# Altium footprint library STM32F103Core.PcbLib: 15 footprints
Each footprint in its own frame and in the unit in brackets; x right, y up, seen from the top. Pads: shape width x height; smd on the part's side, far side on the other; paste and mask are expansions set on the pad; w line width, h text height; cw(c..) or ccw(c..) is an arc to the next point about the centre after c.
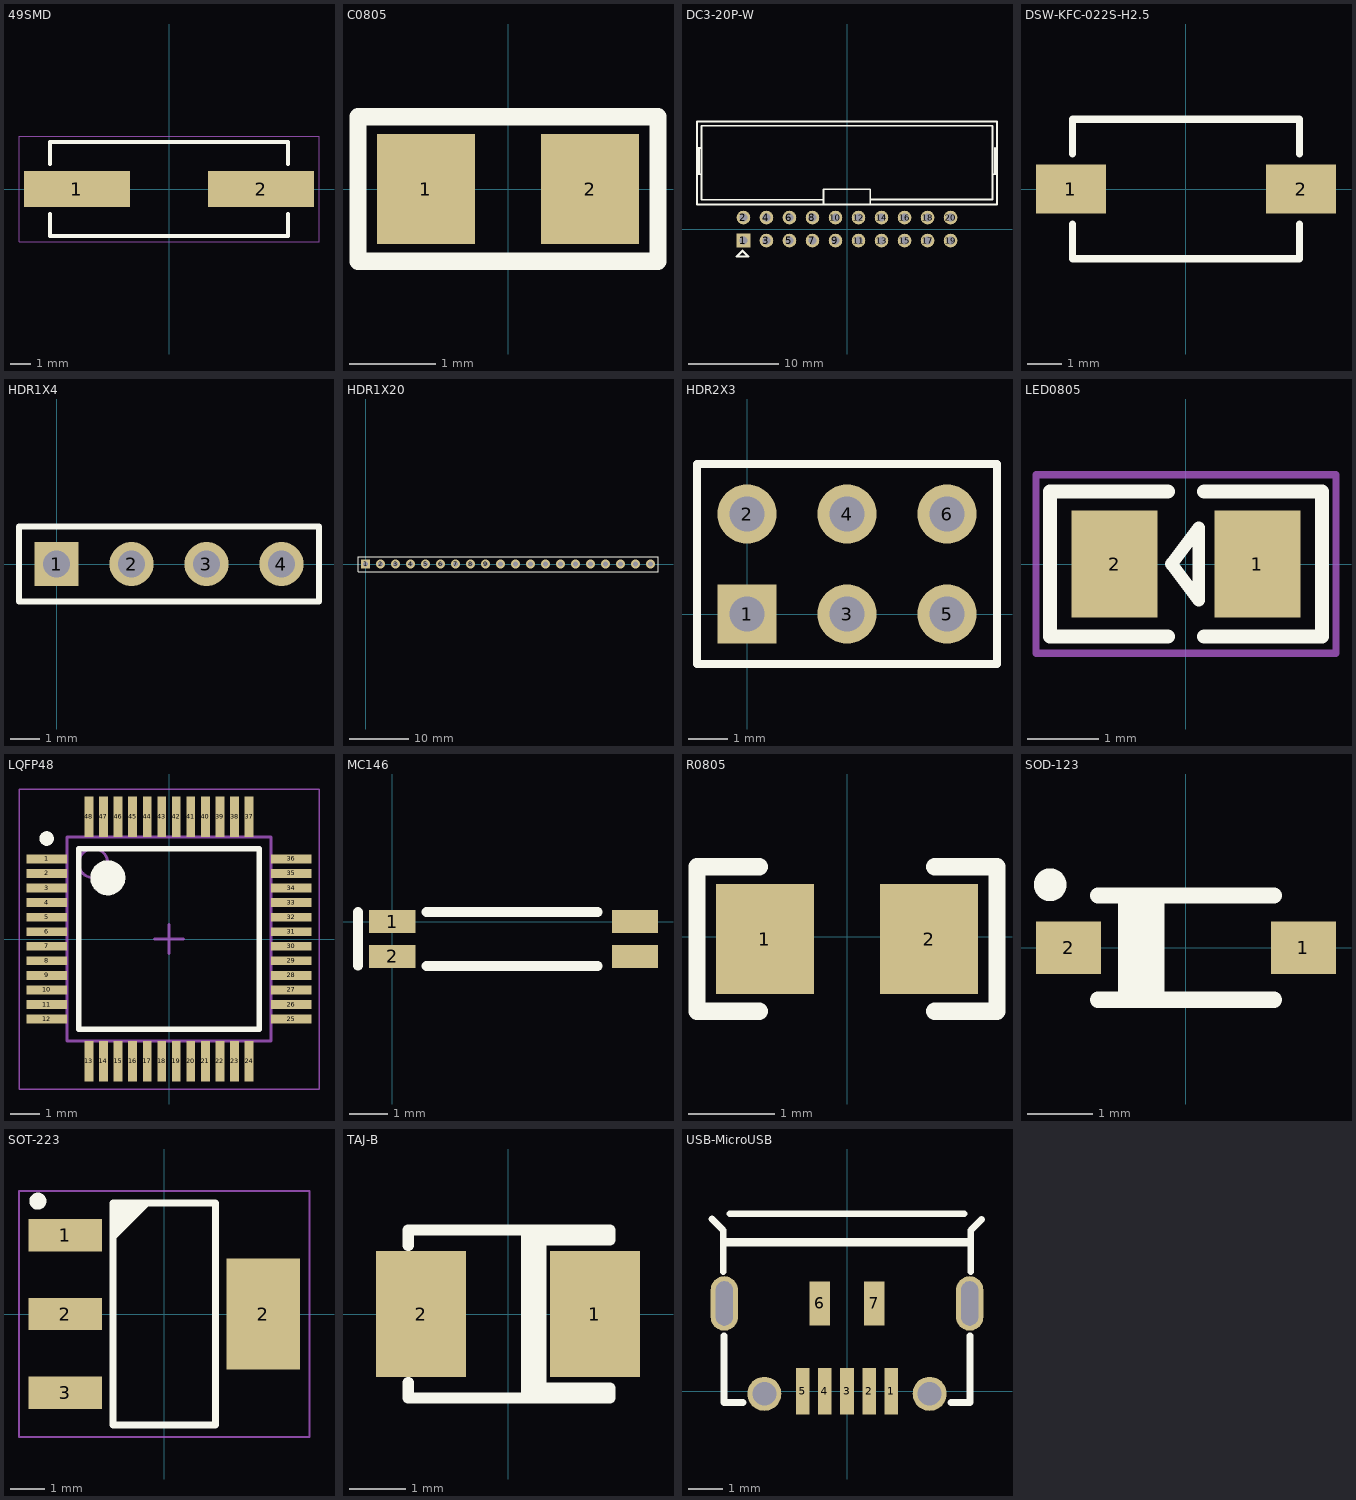
[diagram p0: the footprints below, top view; thin cyan lines are the x and y axes]

## 49SMD [mm]
pads (2):
  rect 5.3x1.8 smd: 1(-4.6,0) 2(4.6,0)
Top Overlay:
  lines w0.2: -5.95,-1.25 -5.95,-2.35 5.95,-2.35 5.95,-1.25 ; -5.95,1.25 -5.95,2.35 5.95,2.35 5.95,1.25
Mechanical 15:
  lines w0.05: -7.5,-2.65 -7.5,2.65 7.5,2.65 7.5,-2.65 -7.5,-2.65
3D body "User Library-HC49_SMDHC49SMD A.STEP": height 5.18, standoff 0, extent -6.15,-2.25 6.15,2.25

## C0805 [mm] "Chip Capacitor, Body 2.0x1.3mm, IPC High Density"
height 1.4
pads (2):
  rect 1.14x1.27 smd: 1(-0.95,0) 2(0.95,0)
Top Overlay:
  lines w0.2: -1.737,-0.838 1.737,-0.838 1.737,0.838 -1.737,0.838 -1.737,-0.838
3D body "User Library-0805(2012M) Cap.STEP": height 0.77, standoff -0.02, extent -1.315,-0.622 1.193,0.622

## DC3-20P-W [mm]
pads (20):
  rect 1.5x1.5 hole 0.9: 1(-11.43,-1.27)
  round 1.5 hole 0.9: 2(-11.43,1.27) 3(-8.89,-1.27) 4(-8.89,1.27) 5(-6.35,-1.27) 6(-6.35,1.27) 7(-3.81,-1.27) 8(-3.81,1.27) 9(-1.27,-1.27) 10(-1.27,1.27) 11(1.27,-1.27) 12(1.27,1.27) 13(3.81,-1.27) 14(3.81,1.27) 15(6.35,-1.27) 16(6.35,1.27) 17(8.89,-1.27) 18(8.89,1.27) 19(11.43,-1.27) 20(11.43,1.27)
Top Overlay:
  lines w0.2: -16.561,6.045 -16.053,6.045 ; -16.561,8.941 -16.053,8.941 ; -16.332,6.071 -16.332,8.941 ; -2.61,3.226 -16.053,3.226 -16.053,11.405 16.053,11.405 16.053,3.251 2.57,3.251 ; -2.591,2.718 -2.591,4.394 2.565,4.394 2.565,2.769 ; 16.053,6.045 16.561,6.045 ; 16.332,6.071 16.332,8.941 ; -16.561,2.718 -16.561,11.862 16.561,11.862 16.561,2.718 -16.561,2.718
  lines w0.25: -12.167,-3.023 -11.532,-2.388 -10.897,-3.023 -12.167,-3.023
3D body "02m6204_5103310-5.STEP": height 9.17, standoff -3.4, extent -16.51,-1.55 16.51,10.902

## DSW-KFC-022S-H2.5 [mm]
pads (2):
  rect 2x1.4 smd: 1(-3.3,0) 2(3.3,0)
Top Overlay:
  lines w0.203: -3.251,-1 -3.251,-2 3.251,-2 ; -3.251,1 -3.251,2 3.251,2 3.251,1 ; 3.251,-2 3.251,-1 3.251,-2
3D body "零件1.STEP": height 2.5, standoff 0, extent -4.073,-1.8 3.927,1.8

## HDR1X4 [mm] "Connector; Header; 4 Position"
pads (4):
  rect 1.5x1.5 hole 0.9: 1(0,0)
  round 1.5 hole 0.9: 2(2.54,0) 3(5.08,0) 4(7.62,0)
Top Overlay:
  lines w0.2: -1.27,-1.27 -1.27,1.27 8.89,1.27 8.89,-1.27 -1.27,-1.27

## HDR1X20 [mm] "Connector; Header; 20 Position"
pads (20):
  rect 1.5x1.5 hole 0.9: 1(0,0)
  round 1.5 hole 0.9: 2(2.54,0) 3(5.08,0) 4(7.62,0) 5(10.16,0) 6(12.7,0) 7(15.24,0) 8(17.78,0) 9(20.32,0) 10(22.86,0) 11(25.4,0) 12(27.94,0) 13(30.48,0) 14(33.02,0) 15(35.56,0) 16(38.1,0) 17(40.64,0) 18(43.18,0) 19(45.72,0) 20(48.26,0)
Top Overlay:
  lines w0.2: -1.27,-1.27 49.53,-1.27 49.53,1.27 0.635,1.27 -1.27,1.27 -1.27,-1.27

## HDR2X3 [mm] "Connector; Header; 3x2 Position"
pads (6):
  rect 1.5x1.5 hole 0.9: 1(0,0)
  round 1.5 hole 0.9: 2(0,2.54) 3(2.54,0) 4(2.54,2.54) 5(5.08,0) 6(5.08,2.54)
Top Overlay:
  lines w0.2: 1.482,-1.27 6.35,-1.27 ; 6.35,-1.27 6.35,3.81 -1.27,3.81 -1.27,-1.27 6.35,-1.27

## LED0805 [mm]
pads (2):
  rect 1.2x1.5 smd: 1(1,0) 2(-1,0)
Top Overlay:
  lines w0.178: -0.203,0 0.178,-0.508 0.178,0.508 -0.203,0
  lines w0.2: -0.254,-1.016 -1.905,-1.016 -1.905,1.016 -0.254,1.016 ; 0.254,-1.016 1.905,-1.016 1.905,1.016 0.254,1.016
Mechanical 15:
  lines w0.1: -2.1,-1.25 2.1,-1.25 2.1,1.25 -2.1,1.25 -2.1,-1.25
3D body "User Library-User Library-led_0805 YEL.STEP": height 1.1, standoff 0, extent -1.01,-0.625 1.01,0.625

## LQFP48 [mm] "TSQFP, 48-Leads, Body 7.00x7.00mm, Pitch 0.50mm, IPC Medium Density"
height 1.6
pads (48):
  rect 1.4x0.3 smd: 1(-4.2,2.75) 2(-4.2,2.25) 3(-4.2,1.75) 4(-4.2,1.25) 5(-4.2,0.75) 6(-4.2,0.25) 7(-4.2,-0.25) 8(-4.2,-0.75) 9(-4.2,-1.25) 10(-4.2,-1.75) 11(-4.2,-2.25) 12(-4.2,-2.75) 25(4.2,-2.75) 26(4.2,-2.25) 27(4.2,-1.75) 28(4.2,-1.25) 29(4.2,-0.75) 30(4.2,-0.25) 31(4.2,0.25) 32(4.2,0.75) 33(4.2,1.25) 34(4.2,1.75) 35(4.2,2.25) 36(4.2,2.75)
  rect 0.3x1.4 smd: 13(-2.75,-4.2) 14(-2.25,-4.2) 15(-1.75,-4.2) 16(-1.25,-4.2) 17(-0.75,-4.2) 18(-0.25,-4.2) 19(0.25,-4.2) 20(0.75,-4.2) 21(1.25,-4.2) 22(1.75,-4.2) 23(2.25,-4.2) 24(2.75,-4.2) 37(2.75,4.2) 38(2.25,4.2) 39(1.75,4.2) 40(1.25,4.2) 41(0.75,4.2) 42(0.25,4.2) 43(-0.25,4.2) 44(-0.75,4.2) 45(-1.25,4.2) 46(-1.75,4.2) 47(-2.25,4.2) 48(-2.75,4.2)
Top Overlay:
  circle w0.6: c-2.1,2.1 r0.3
  circle w0.25: c-4.2,3.45 r0.125
  lines w0.2: -3.1,-3.1 3.1,-3.1 3.1,3.1 -3.1,3.1 -3.1,-3.1
Mechanical 13:
  circle w0.1: c-2.6,2.6 r0.5
  lines w0.1: -3.5,-3.5 3.5,-3.5 3.5,3.5 -3.5,3.5 -3.5,-3.5
Mechanical 15:
  lines w0.05: -5.15,-5.15 5.15,-5.15 5.15,5.15 -5.15,5.15 -5.15,-5.15
  lines w0.1: -0.5,0 0.5,0 ; 0,-0.5 0,0.5
3D body: height 1.6, standoff 0.05, extent -3.5,-3.5 3.5,3.5

## MC146 [mm]
pads (4):
  rect 1.2x0.6 smd: 1(0,0) 2(0,-0.9) ""(6.3,-0.9) ""(6.3,0)
Top Overlay:
  lines w0.254: -0.889,-1.143 -0.889,0.254 ; 0.889,-1.154 5.334,-1.154 ; 0.889,0.254 5.334,0.254

## R0805 [mm] "Chip Resistor, Body 1.6x0.8mm, IPC High Density"
height 0.9
pads (2):
  rect 1.14x1.27 smd: 1(-0.95,-0.025) 2(0.95,-0.025)
Top Overlay:
  lines w0.2: -1.016,-0.864 -1.737,-0.864 -1.737,0.813 -1.016,0.813 ; 1.016,-0.864 1.737,-0.864 1.737,0.813 1.016,0.813
3D body "User Library-RES_2013-0805.STEP": height 0.76, standoff 0, extent -1.15,-0.675 1.15,0.675

## SOD-123 [mm]
pads (2):
  rect 1x0.8 smd: 1(1.8,0) 2(-1.8,0)
Top Overlay:
  circle w0.3: c-2.083,0.965 r0.102
  lines w0.25: -1.35,-0.8 1.35,-0.8 ; -1.35,0.8 1.35,0.8 ; -0.914,-0.762 -0.914,0.8 ; -0.686,-0.8 -0.686,0.762 ; -0.457,-0.775 -0.457,0.787
3D body "SOD-123.STEP": height 1.2, standoff 0, extent -1.85,-0.8 1.85,0.8

## SOT-223 [mm]
pads (4):
  rect 2.15x0.95 smd: 1(-2.9,2.3) 2(-2.9,0) 3(-2.9,-2.3)
  rect 2.15x3.25 smd: 2(2.9,0)
Top Overlay:
  circle w0.25: c-3.7,3.3 r0.125
  lines w0.2: -1.5,2.25 -0.5,3.25 ; -1.5,2.45 -0.7,3.25 ; -1.5,2.65 -0.9,3.25 ; -1.5,2.85 -1.1,3.25 ; -1.5,3.05 -1.3,3.25 ; -1.5,-3.25 -1.5,3.25 1.5,3.25 1.5,-3.25 -1.5,-3.25
Mechanical 15:
  lines w0.05: -4.25,-3.6 -4.25,3.6 4.25,3.6 4.25,-3.6 -4.25,-3.6

## TAJ-B [mm] "钽电容"
pads (2):
  rect 1.6x2.25 smd: 1(1.55,0) 2(-1.55,0)
Top Overlay:
  region: 0.686,1.499 0.229,1.499 0.229,-1.499 0.686,-1.499
  lines w0.2: -1.778,-1.219 -1.778,-1.499 1.821,-1.499 1.821,-1.321 0.483,-1.321 ; -1.778,1.219 -1.778,1.499 1.821,1.499 1.821,1.321 0.61,1.321
3D body "User Library-CaseB_3528-21.STEP": height 1.9, standoff 0, extent -1.75,-1.4 1.75,1.4

## USB-MicroUSB [mm] "MicroUSB"
pads (11):
  rect 0.4x1.35 smd: 1(1.3,0) 2(0.65,0) 3(0,0) 4(-0.65,0) 5(-1.3,0)
  rect 0.6x1.3 smd: 6(-0.8,2.575) 7(0.8,2.575)
  oval 0.8x1.6 hole 0.5 slot 1.3 at 90 deg: ""(-3.6,2.575) ""(3.6,2.575)
  round 1 hole 0.7: ""(-2.425,-0.075) ""(2.425,-0.075)
Top Overlay:
  lines w0.2: -3.962,5.055 -3.632,4.724 -3.632,3.505 ; -3.607,1.626 -3.607,-0.33 -3.048,-0.33 ; -3.429,5.207 3.429,5.207 ; 3.048,-0.33 3.607,-0.33 3.607,1.626 ; 3.632,3.505 3.632,4.724 3.95,5.042
  lines w0.25: -3.607,4.375 3.607,4.375
3D body "User Library-MicroUSB-B_Molex_105017-0001.STEP": height 2.68, standoff -0.63, extent -4.1,-0.237 4.1,5.193